# Altium schematic symbol library OSC_4P.Schlib: 1 symbol
Pins are listed as number, name and electrical type; pins without a type are passive.

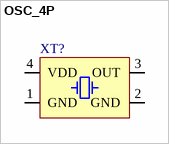
[diagram p0: symbol OSC_4P]

## OSC_4P
designator XT?
pins: 1 GND, 2 GND, 3 OUT, 4 VDD